# Altium footprint library Battery_V2.PcbLib: 8 footprints
Each footprint in its own frame and in the unit in brackets; x right, y up, seen from the top. Pads: shape width x height; smd on the part's side, far side on the other; paste and mask are expansions set on the pad; w line width, h text height; cw(c..) or ccw(c..) is an arc to the next point about the centre after c.
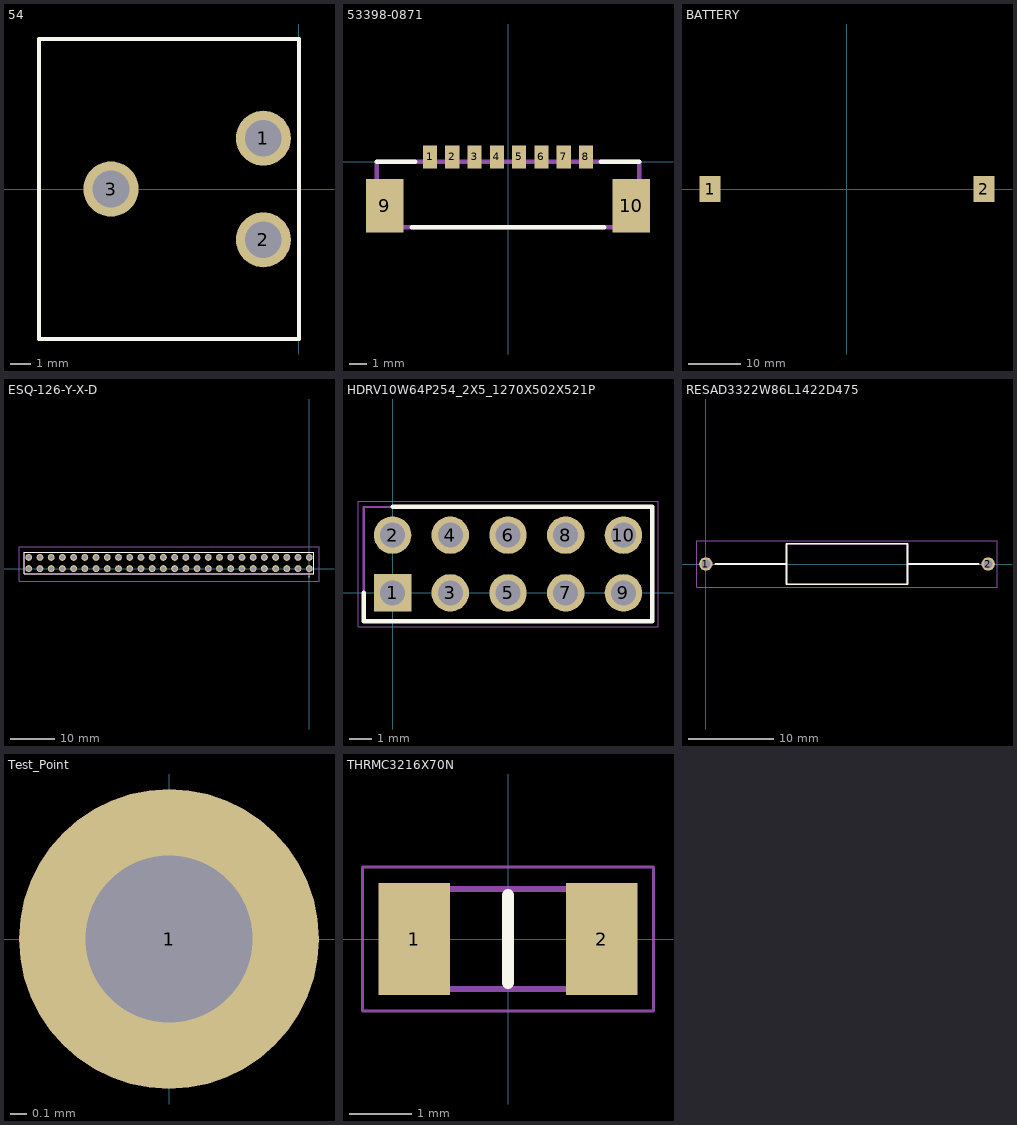
[diagram p0: the footprints below, top view; thin cyan lines are the x and y axes]

## 54 [mm]
pads (3):
  round 2.75 hole 1.83: 1(-1.78,2.54) 2(-1.78,-2.54) 3(-9.4,0)
Top Overlay:
  lines w0.2: -13,-7.5 -13,7.5 0,7.5 0,-7.5 -13,-7.5
Mechanical 13:
  lines w0.2: -13,-7.5 0,-7.5 0,7.5 -13,7.5 -13,-7.5

## 53398-0871 [mm]
pads (10):
  rect 0.8x1.3 smd: 1(-4.375,0.258) 2(-3.125,0.258) 3(-1.875,0.258) 4(-0.625,0.258) 5(0.625,0.258) 6(1.875,0.258) 7(3.125,0.258) 8(4.375,0.258)
  rect 2.1x3 smd: 9(-6.925,-2.492) 10(6.925,-2.492)
Top Overlay:
  lines w0.254: -7.375,0 -5.2,0 ; -5.4,-3.7 5.4,-3.7 ; 5.2,0 7.375,0
Mechanical 13:
  lines w0.254: -7.375,-3.7 7.375,-3.7 7.375,0 -7.375,0 -7.375,-3.7
3D body "53398-0871.stp": height 2.3, standoff -2.4, extent -7.575,-2.35 7.575,1.85

## BATTERY [mm] "Battery"
pads (2):
  rect 4x5 smd: 1(-26.32,0) 2(26.32,0)

## ESQ-126-Y-X-D [mm]
pads (52):
  round 1.55 hole 1.02: 1(0,0) 2(0,2.54) 3(-2.54,0) 4(-2.54,2.54) 5(-5.08,0) 6(-5.08,2.54) 7(-7.62,0) 8(-7.62,2.54) 9(-10.16,0) 10(-10.16,2.54) 11(-12.7,0) 12(-12.7,2.54) 13(-15.24,0) 14(-15.24,2.54) 15(-17.78,0) 16(-17.78,2.54) 17(-20.32,0) 18(-20.32,2.54) 19(-22.86,0) 20(-22.86,2.54) 21(-25.4,0) 22(-25.4,2.54) 23(-27.94,0) 24(-27.94,2.54) 25(-30.48,0) 26(-30.48,2.54) 27(-33.02,0) 28(-33.02,2.54) 29(-35.56,0) 30(-35.56,2.54) 31(-38.1,0) 32(-38.1,2.54) 33(-40.64,0) 34(-40.64,2.54) 35(-43.18,0) 36(-43.18,2.54) 37(-45.72,0) 38(-45.72,2.54) 39(-48.26,0) 40(-48.26,2.54) 41(-50.8,0) 42(-50.8,2.54) 43(-53.34,0) 44(-53.34,2.54) 45(-55.88,0) 46(-55.88,2.54) 47(-58.42,0) 48(-58.42,2.54) 49(-60.96,0) 50(-60.96,2.54) 51(-63.5,0) 52(-63.5,2.54)
Top Overlay:
  circle w0.2: c-0.05,-1.75 r0.05
  lines w0.1: -64.5,-1.205 1,-1.205 1,3.745 -64.5,3.745 -64.5,-1.205
Mechanical 13:
  lines w0.2: -64.5,-1.205 1,-1.205 1,3.745 -64.5,3.745 -64.5,-1.205
Mechanical 15:
  lines w0.05: -65.7,-2.85 2.2,-2.85 2.2,4.945 -65.7,4.945 -65.7,-2.85

## HDRV10W64P254_2X5_1270X502X521P [mm]
pads (10):
  rect 1.65x1.65 hole 1.1: 1(0,0)
  round 1.65 hole 1.1: 2(0,2.54) 3(2.54,0) 4(2.54,2.54) 5(5.08,0) 6(5.08,2.54) 7(7.62,0) 8(7.62,2.54) 9(10.16,0) 10(10.16,2.54)
Top Overlay:
  lines w0.2: -1.27,0 -1.27,-1.24 11.43,-1.24 11.43,3.78 0,3.78
Mechanical 13:
  lines w0.1: -1.27,-1.24 11.43,-1.24 11.43,3.78 -1.27,3.78 -1.27,-1.24
Mechanical 15:
  lines w0.05: -1.52,-1.49 11.68,-1.49 11.68,4.03 -1.52,4.03 -1.52,-1.49
3D body "HTSW-105-05-G-D.stp": height 5.21, standoff -3.3, extent -1.27,-1.24 11.43,3.78

## RESAD3322W86L1422D475 [mm]
pads (2):
  round 1.575 hole 1.05: 1(0,0) 2(33.2,0)
Top Overlay:
  lines w0.2: 1.138,0 9.49,0 ; 23.71,0 32.062,0 ; 9.49,-2.375 9.49,2.375 23.71,2.375 23.71,-2.375 9.49,-2.375
Mechanical 13:
  lines w0.1: 0,0 9.49,0 ; 23.71,0 33.2,0 ; 9.49,-2.375 9.49,2.375 23.71,2.375 23.71,-2.375 9.49,-2.375
Mechanical 15:
  lines w0.05: -1.038,-2.725 -1.038,2.725 34.237,2.725 34.237,-2.725 -1.038,-2.725
3D body "RS02B24R00FE12.stp": height 5.54, standoff -5.54, extent -0.429,-2.765 33.652,2.765

## Test_Point [mm]
pads (1):
  round 1.8 hole 1: 1(0,0)

## THRMC3216X70N [mm]
pads (2):
  rect 1.15x1.8 smd: 1(-1.5,0) 2(1.5,0)
Top Overlay:
  lines w0.2: 0,-0.7 0,0.7
Mechanical 13:
  lines w0.1: -1.6,-0.8 -1.6,0.8 1.6,0.8 1.6,-0.8 -1.6,-0.8
Mechanical 15:
  lines w0.05: -2.325,-1.15 -2.325,1.15 2.325,1.15 2.325,-1.15 -2.325,-1.15
3D body "32207595.stp": height 0.7, standoff 0, extent -1.6,-0.8 1.6,0.8